# EAGLE library part RJ50-STEWARD (library stuff)
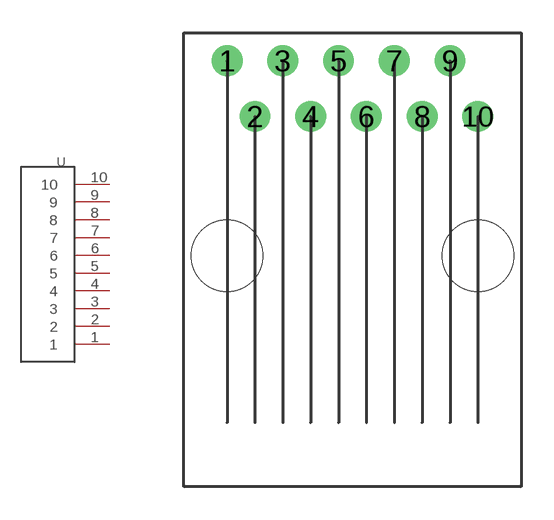
[diagram p0: symbol with the pads of RJ50; footprint RJ50]

Designator prefix -

## RJ50-STEWARD  [RJ50]
1  1
2  2
3  3
4  4
5  5
6  6
7  7
8  8
9  9
10  10

## Footprint RJ50 (pad centres in mm)
drill 0.9: 1 -5.715,8.89; 2 -4.445,6.35; 3 -3.175,8.89; 4 -1.905,6.35; 5 -0.635,8.89; 6 0.635,6.35; 7 1.905,8.89; 8 3.175,6.35; 9 4.445,8.89; 10 5.715,6.35
hole 3.251 at -5.715,0
hole 3.251 at 5.715,0